# EAGLE library part INA239AIDGSR (library INA239)
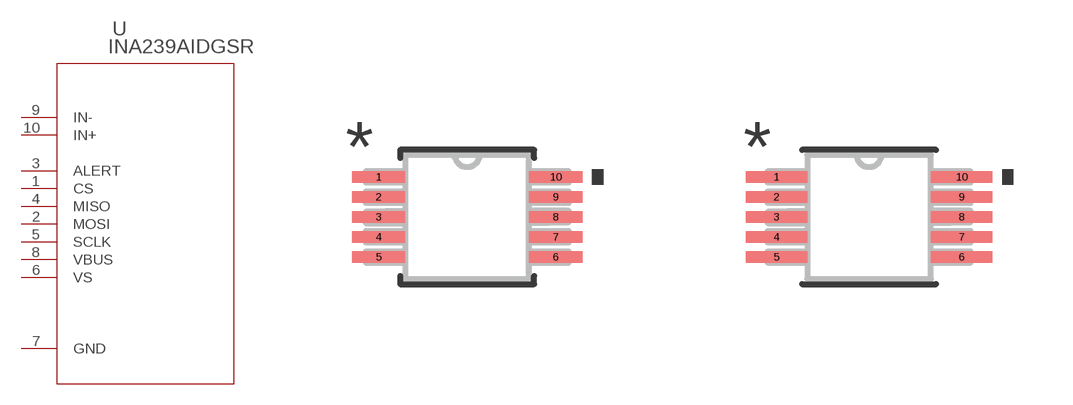
[diagram p0: symbol with the pads of VSSOP_9AIDGST_TEX; footprints VSSOP_9AIDGST_TEX, VSSOP_9AIDGST_TEX-M]

Designator prefix U

## INA239AIDGSR (COPYRIGHT: Copyright (C) 2023 Ultra Librarian. All rights reserved.; MANUFACTURER_PART_NUMBER: INA239AIDGSR; MFR_NAME: Texas Instruments)  [VSSOP_9AIDGST_TEX]
1  CS  pas
2  MOSI  pas
3  ALERT  pas
4  MISO  pas
5  SCLK  pas
6  VS  pas
7  GND  pas
8  VBUS  pas
9  IN-  in
10  IN+  in

## INA239AIDGSRVSSOP_9AIDGST_TEX-M (COPYRIGHT: Copyright (C) 2023 Ultra Librarian. All rights reserved.; MANUFACTURER_PART_NUMBER: INA239AIDGSR; MFR_NAME: Texas Instruments)  [VSSOP_9AIDGST_TEX-M]
Pads as for VSSOP_9AIDGST_TEX

## INA239AIDGSRVSSOP_9AIDGST_TEX-L (COPYRIGHT: Copyright (C) 2023 Ultra Librarian. All rights reserved.; MANUFACTURER_PART_NUMBER: INA239AIDGSR; MFR_NAME: Texas Instruments)  [VSSOP_9AIDGST_TEX-L]
Pads as for VSSOP_9AIDGST_TEX

## Footprint VSSOP_9AIDGST_TEX (pad centres in mm)
smd 1.333 x 0.279: 1 -2.216,1; 2 -2.216,0.5; 3 -2.216,0; 4 -2.216,-0.5; 5 -2.216,-1; 6 2.216,-1; 7 2.216,-0.5; 8 2.216,0; 9 2.216,0.5; 10 2.216,1

## Footprint VSSOP_9AIDGST_TEX-M (pad centres in mm)
smd 1.537 x 0.279: 1 -2.318,1; 2 -2.318,0.5; 3 -2.318,0; 4 -2.318,-0.5; 5 -2.318,-1; 6 2.318,-1; 7 2.318,-0.5; 8 2.318,0; 9 2.318,0.5; 10 2.318,1

## Footprint VSSOP_9AIDGST_TEX-L (pad centres in mm)
smd 1.13 x 0.229: 1 -2.115,1; 2 -2.115,0.5; 3 -2.115,0; 4 -2.115,-0.5; 5 -2.115,-1; 6 2.115,-1; 7 2.115,-0.5; 8 2.115,0; 9 2.115,0.5; 10 2.115,1